# EAGLE library part STUSB4710ADTR (library STUSB4710)
STUSB4710ADTR Autonomous USB PD controller with integrated discharge path
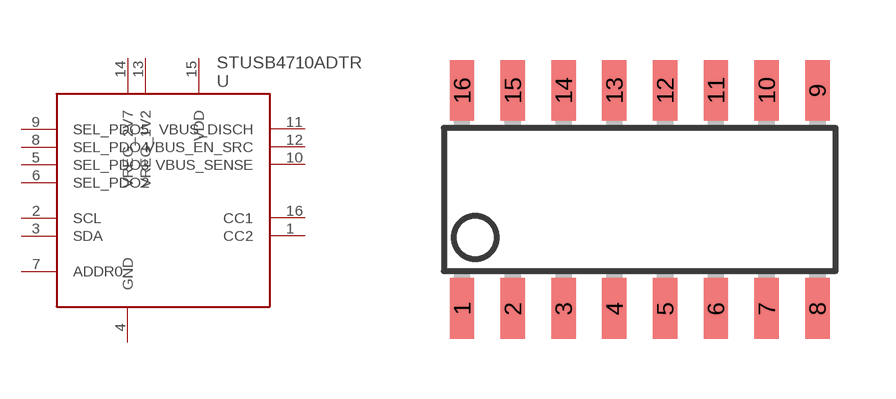
[diagram p2: symbol with the pads of SO-16; footprint SO-16]

Designator prefix -

## STUSB4710ADTR  [SO-16]
1  CC2
2  SCL
3  SDA
4  GND
5  SEL_PDO3
6  SEL_PDO2
7  ADDR0
8  SEL_PDO4
9  SEL_PDO5
10  VBUS_SENSE
11  VBUS_DISCH
12  VBUS_EN_SRC
13  VREG_1V2
14  VREG_2V7
15  VDD
16  CC1

## Footprint SO-16 (pad centres in mm)
smd 0.61 x 1.524: 1 -4.445,-2.794; 2 -3.175,-2.794; 3 -1.905,-2.794; 4 -0.635,-2.794; 5 0.635,-2.794; 6 1.905,-2.794; 7 3.175,-2.794; 8 4.445,-2.794; 9 4.445,2.667; 10 3.175,2.667; 11 1.905,2.667; 12 0.635,2.667; 13 -0.635,2.667; 14 -1.905,2.667; 15 -3.175,2.667; 16 -4.445,2.667